# EAGLE library part 74HCT9046 (library SquantorNxp)
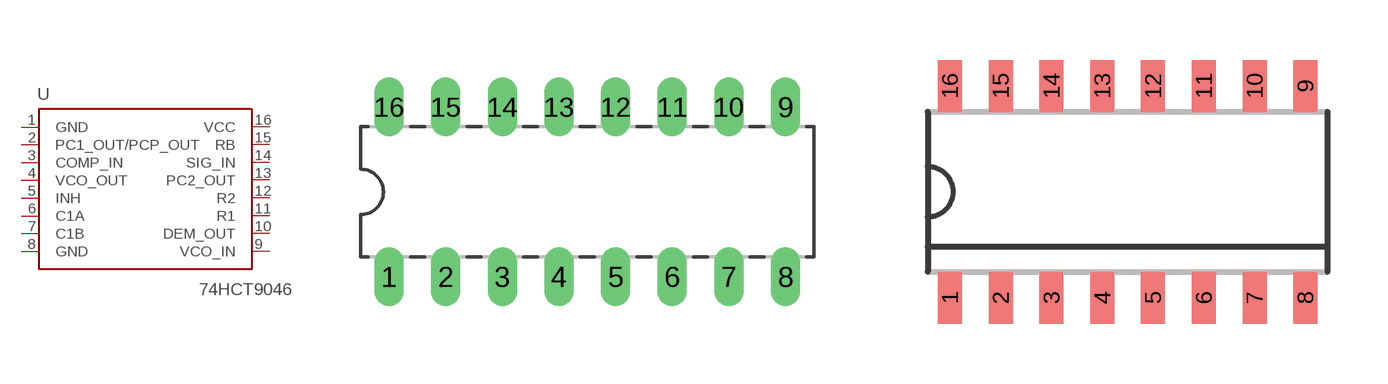
[diagram p5: symbol with the pads of SOT38; footprints SOT38, SOT109-1]

Designator prefix -

## 74HCT9046AN  [SOT38]
1  GND  pwr
2  PC1_OUT/PCP_OUT  out
3  COMP_IN  in
4  VCO_OUT  out
5  INH  in
6  C1A
7  C1B
8  GND  pwr
9  VCO_IN  in
10  DEM_OUT  out
11  R1
12  R2
13  PC2_OUT  out
14  SIG_IN  in
15  RB
16  VCC  pwr

## 74HCT9046AD  [SOT109-1]
Pads as for SOT38

## 74HCT9046APW  [SOT403-1]
Pads as for SOT38

## Footprint SOT38 (pad centres in mm)
Dual In Line Package
drill 0.813 long: 1 -8.89,-3.81; 2 -6.35,-3.81; 3 -3.81,-3.81; 4 -1.27,-3.81; 5 1.27,-3.81; 6 3.81,-3.81; 7 6.35,-3.81; 8 8.89,-3.81; 9 8.89,3.81; 10 6.35,3.81; 11 3.81,3.81; 12 1.27,3.81; 13 -1.27,3.81; 14 -3.81,3.81; 15 -6.35,3.81; 16 -8.89,3.81

## Footprint SOT109-1 (pad centres in mm)
SOT109-1 SO16: plastic small outline package; 16 leads; body width 3.9 mm JEDEC: MS-012 IEC: 076E07
smd 0.6 x 1.3: 1 -4.445,-2.65; 2 -3.175,-2.65; 3 -1.905,-2.65; 4 -0.635,-2.65; 5 0.635,-2.65; 6 1.905,-2.65; 7 3.175,-2.65; 8 4.445,-2.65; 9 4.445,2.65; 10 3.175,2.65; 11 1.905,2.65; 12 0.635,2.65; 13 -0.635,2.65; 14 -1.905,2.65; 15 -3.175,2.65; 16 -4.445,2.65

## Footprint SOT403-1 (pad centres in mm)
SOT403-1 TSSOP16: plastic thin shrink small outline package; 16 leads; body width 4.4 mm JEDEC: MO-153 IEC: ---
smd 0.6 x 1.35: 1 -2.375,-2.925; 8 2.375,-2.925; 9 2.375,2.925; 16 -2.375,2.925
smd 0.4 x 1.35: 2 -1.625,-2.925; 3 -0.975,-2.925; 4 -0.325,-2.925; 5 0.325,-2.925; 6 0.975,-2.925; 7 1.625,-2.925; 10 1.625,2.925; 11 0.975,2.925; 12 0.325,2.925; 13 -0.325,2.925; 14 -0.975,2.925; 15 -1.625,2.925